# EAGLE library part LTC2057* (library linear-technology)
High Voltage, Low Noise Zero-Drift Operational Amplifier
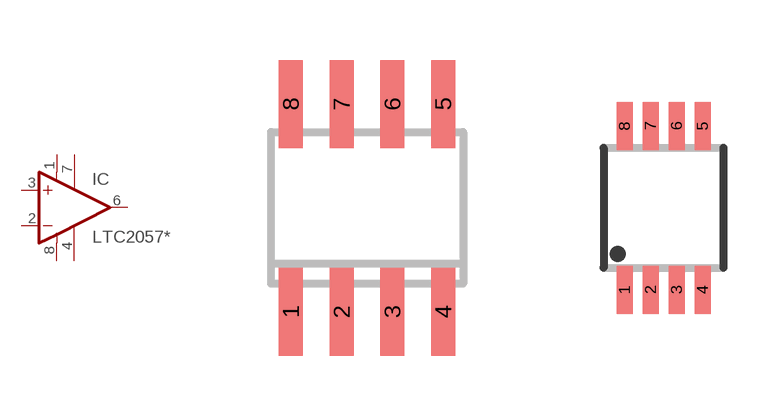
[diagram p6: symbol with the pads of SOIC8; footprints SOIC8, MSOP8]

Designator prefix IC

## LTC2057S8, LTC2057IS8  [SOIC8]
1  SD  in
2  -IN  in
3  +IN  in
4  V-  pwr
6  OUT  out
7  V+  pwr
8  SDCOM  in

## LTC2057MS8, LTC2057IMS8  [MSOP8]
Pads as for SOIC8

## Footprint SOIC8 (pad centres in mm)
Small Outline IC
smd 0.6 x 2.2: 1 -1.905,-2.6; 2 -0.635,-2.6; 3 0.635,-2.6; 4 1.905,-2.6; 5 1.905,2.6; 6 0.635,2.6; 7 -0.635,2.6; 8 -1.905,2.6

## Footprint MSOP8 (pad centres in mm)
MSOP8
smd 0.4 x 1.2: 1 -0.975,-2.05; 2 -0.325,-2.05; 3 0.325,-2.05; 4 0.975,-2.05; 5 0.975,2.05; 6 0.325,2.05; 7 -0.325,2.05; 8 -0.975,2.05